# Altium footprint library MP_2P7.PcbLib: 1 footprints
Each footprint in its own frame and in the unit in brackets; x right, y up, seen from the top. Pads: shape width x height; smd on the part's side, far side on the other; paste and mask are expansions set on the pad; w line width, h text height; cw(c..) or ccw(c..) is an arc to the next point about the centre after c.
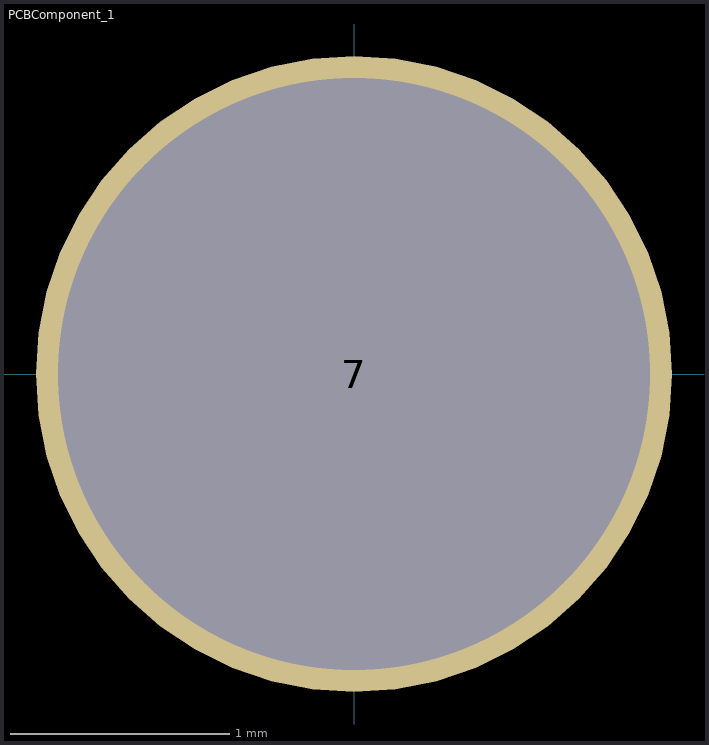
[diagram p0: the footprint, top view; thin cyan lines are the x and y axes]

## PCBComponent_1 [mm]
pads (1):
  round 2.9 hole 2.7: 7(0,0)
3D body "Screw_ISO_10642_M2x6_A2.SLDPRT": height 2, standoff -4, extent -2.559,-2.559 2.559,2.559